# EAGLE library part CY62157EV30LL-55ZSXE (library CY62157EV30LL-55ZSXE)
Cypress Semiconductor CY62157EV30LL-55ZSXE SRAM Memory, 8Mbit, 2.2 3.6 V, 55ns 44-Pin TSOP Source: Datasheet <https://www.cypress.com/file/43021/download>
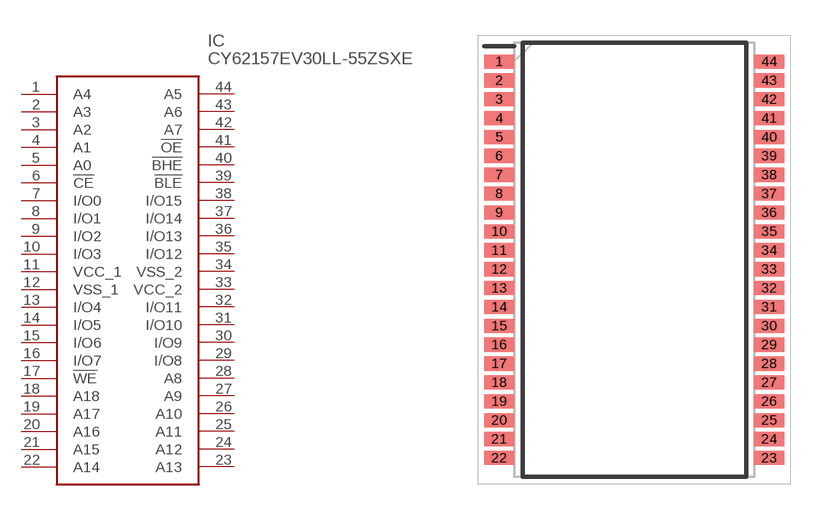
[diagram p0: symbol with the pads of SOP80P1184X119-44N; footprint SOP80P1184X119-44N]

Designator prefix IC

## CY62157EV30LL-55ZSXE (Description: Cypress Semiconductor CY62157EV30LL-55ZSXE SRAM Memory, 8Mbit, 2.2 3.6 V, 55ns 44-Pin TSOP; Height: 1.194mm; Manufacturer_Name: Infineon; Manufacturer_Part_Number: CY62157EV30LL-55ZSXE)  [SOP80P1184X119-44N]
1  A4
2  A3
3  A2
4  A1
5  A0
6  !CE
7  I/O0
8  I/O1
9  I/O2
10  I/O3
11  VCC_1
12  VSS_1
13  I/O4
14  I/O5
15  I/O6
16  I/O7
17  !WE
18  A18
19  A17
20  A16
21  A15
22  A14
23  A13
24  A12
25  A11
26  A10
27  A9
28  A8
29  I/O8
30  I/O9
31  I/O10
32  I/O11
33  VCC_2
34  VSS_2
35  I/O12
36  I/O13
37  I/O14
38  I/O15
39  !BLE
40  !BHE
41  !OE
42  A7
43  A6
44  A5

## Footprint SOP80P1184X119-44N (pad centres in mm)
44-pin TSOP Package Outline, 51-85087
smd 1.27 x 0.6: 1 -5.715,8.4; 2 -5.715,7.6; 3 -5.715,6.8; 4 -5.715,6; 5 -5.715,5.2; 6 -5.715,4.4; 7 -5.715,3.6; 8 -5.715,2.8; 9 -5.715,2; 10 -5.715,1.2; 11 -5.715,0.4; 12 -5.715,-0.4; 13 -5.715,-1.2; 14 -5.715,-2; 15 -5.715,-2.8; 16 -5.715,-3.6; 17 -5.715,-4.4; 18 -5.715,-5.2; 19 -5.715,-6; 20 -5.715,-6.8; 21 -5.715,-7.6; 22 -5.715,-8.4; 23 5.715,-8.4; 24 5.715,-7.6; 25 5.715,-6.8; 26 5.715,-6; 27 5.715,-5.2; 28 5.715,-4.4; 29 5.715,-3.6; 30 5.715,-2.8; 31 5.715,-2; 32 5.715,-1.2; 33 5.715,-0.4; 34 5.715,0.4; 35 5.715,1.2; 36 5.715,2; 37 5.715,2.8; 38 5.715,3.6; 39 5.715,4.4; 40 5.715,5.2; 41 5.715,6; 42 5.715,6.8; 43 5.715,7.6; 44 5.715,8.4